# Altium schematic symbol library Speaker Library.SchLib: 91 symbols
Pins are listed as number, name and electrical type; pins without a type are passive.

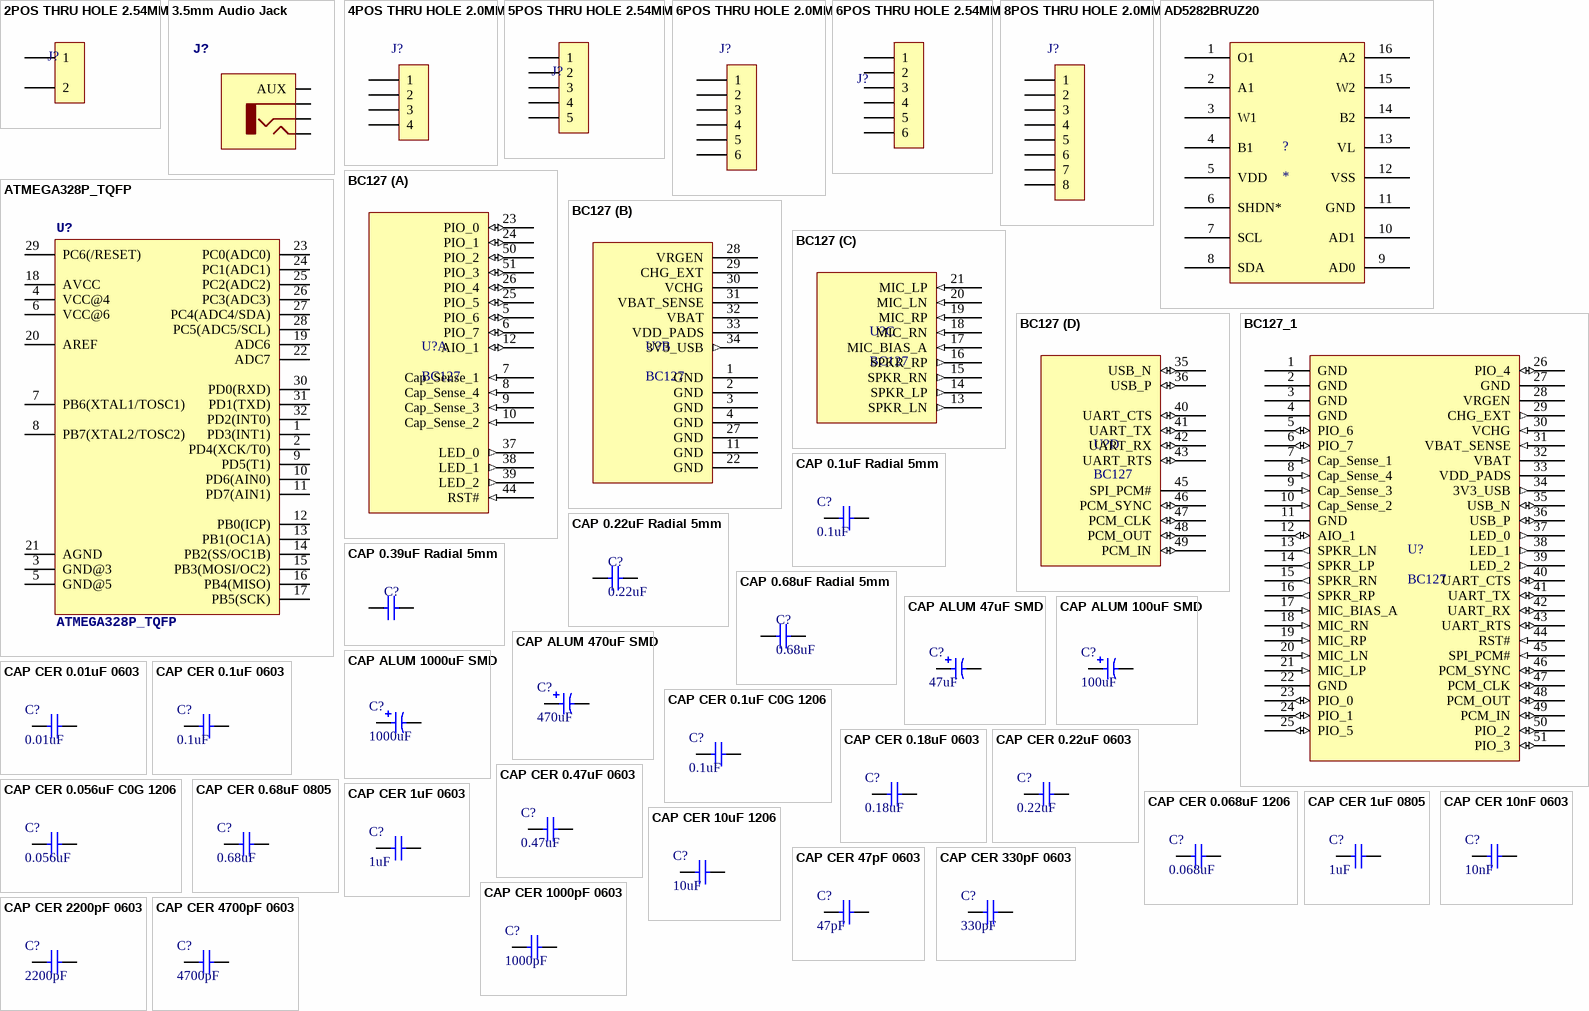
[diagram p0: symbols 2POS THRU HOLE 2.54MM to CAP CER 4700pF 0603]

## 2POS THRU HOLE 2.54MM
designator J?
footprint 070543-0001 (Connector, Through-hole, 2.54mm Pitch)
pins: 1, 2

## 3.5mm Audio Jack
designator J?
footprint JST PH-4
pins: 1 AUX, 2 SLEEVE, 3 RIGHT, 4 LEFT

## 4POS THRU HOLE 2.0MM
designator J?  (value not drawn)
Digikey Part Number: 455-1706-ND
footprint JST PH-4
pins: 1, 2, 3, 4

## 5POS THRU HOLE 2.54MM
designator J?  (value not drawn)
footprint 70543-0004 (Connector, Through-hole, 2.54mm Pitch)
pins: 1, 2, 3, 4, 5

## 6POS THRU HOLE 2.0MM
designator J?  (value not drawn)
Digikey Part Number: 455-1708-ND
footprint JST PH-6
pins: 1, 2, 3, 4, 5, 6

## 6POS THRU HOLE 2.54MM
designator J?  (value not drawn)
footprint 90147-1106 (Receptacle, 6POS, Through-hole, 2.54mm Pitch)
pins: 1, 2, 3, 4, 5, 6

## 8POS THRU HOLE 2.0MM
designator J?  (value not drawn)
Digikey Part Number: 455-1710-ND
footprint JST PH-8
pins: 1, 2, 3, 4, 5, 6, 7, 8

## AD5282BRUZ20
designator ?
Imported; Manufacturer_Part_Number: AD5282BRUZ20; Vendor: Analog Devices Inc; Taps: 256; Resistance (Ohms): 20K; Number of Circuits: 2; Temperature Coefficient: 30 ppm/Â°C Typical; Memory Type: Volatile; Interface: IÂ²C (Device Address); Voltage - Supply: 4.5 V ~ 16.5 V, Â±4.5 V ~ 5.5 V; C: Copyright (C) 2015 Accelerated Designs. All rights reserved; DigiKeyPartNumber: AD5282BRUZ20-ND; Quantity_Available: 1600; DataSheet: http://www.analog.com/static/imported-files/data_sheets/AD5280_5282.pdf; Operating Temperature: -40Â°C ~ 85Â°C; Mounting Type: Surface Mount; Package / Case: 16-TSSOP (0.173", 4.40mm Width); Supplier Device Package: 16-TSSOP; Packaging: Tube; Copyright: Copyright (C) 2015 Accelerated Designs. All rights reserved; RefDes: RefDes; Type: Type; Value: Value
footprint TSSOP-16
pins: 1 O1, 2 A1, 3 W1, 4 B1, 5 VDD (power), 6 SHDN*, 7 SCL, 8 SDA, 9 AD0, 10 AD1, 11 GND, 12 VSS (power), 13 VL (power), 14 B2, 15 W2, 16 A2

## ATMEGA328P_TQFP
designator U?
PROD_ID: IC-09069; Digikey Part Number: ATMEGA328P-AURCT-ND
footprint TQFP32-08
pins: 1 PD3(INT1), 2 PD4(XCK/T0), 3 GND@3 (power), 4 VCC@4 (power), 5 GND@5 (power), 6 VCC@6 (power), 7 PB6(XTAL1/TOSC1), 8 PB7(XTAL2/TOSC2), 9 PD5(T1), 10 PD6(AIN0), 11 PD7(AIN1), 12 PB0(ICP), 13 PB1(OC1A), 14 PB2(SS/OC1B), 15 PB3(MOSI/OC2), 16 PB4(MISO), 17 PB5(SCK), 18 AVCC, 19 ADC6, 20 AREF, 21 AGND (power), 22 ADC7, 23 PC0(ADC0), 24 PC1(ADC1), 25 PC2(ADC2), 26 PC3(ADC3), 27 PC4(ADC4/SDA), 28 PC5(ADC5/SCL), 29 PC6(/RESET), 30 PD0(RXD), 31 PD1(TXD), 32 PD2(INT0)

## BC127
designator U?
footprint BC127
part A pins: 5 PIO_6 (io) "PIO", 6 PIO_7 (io) "PIO", 7 Cap_Sense_1 (in), 8 Cap_Sense_4 (in), 9 Cap_Sense_3 (in), 10 Cap_Sense_2 (in), 12 AIO_1 (io) "Analog I/O", 23 PIO_0 (io), 24 PIO_1 (io), 25 PIO_5 (io), 26 PIO_4 (io), 37 LED_0 (out) "LED Driver", 38 LED_1 (out) "LED Driver", 39 LED_2 (out) "LED Driver", 44 RST# (in) "Reset (if low for more than 5ms)", 50 PIO_2 (io), 51 PIO_3 (io)
part B pins: 1 GND (power) "Common Ground", 2 GND (power) "Common Ground", 3 GND (power) "Common Ground", 4 GND (power) "Common Ground", 11 GND (power) "Common Ground", 22 GND (power) "Common Ground", 27 GND (power) "Common Ground", 28 VRGEN, 29 CHG_EXT "Charger Control", 30 VCHG "Charger Input", 31 VBAT_SENSE "Battery Charger Sense", 32 VBAT "Battery Positive", 33 VDD_PADS (power) "Positive Supply Input", 34 3V3_USB (out) "Positive Supply Output"
part C pins: 13 SPKR_LN (out) "Speaker Left Negative", 14 SPKR_LP (out) "Speaker Left Positive", 15 SPKR_RN (out) "Speaker Right Negative", 16 SPKR_RP (out) "Speaker Right Positive", 17 MIC_BIAS_A (in), 18 MIC_RN (in), 19 MIC_RP (in), 20 MIC_LN (in), 21 MIC_LP (in)
part D pins: 35 USB_N (io) "USB Data Negative", 36 USB_P (io) "USB Data Positive", 40 UART_CTS (io) "UART Clear to Send", 41 UART_TX (io) "UART TX Data", 42 UART_RX (io) "UART RX Data", 43 UART_RTS (io) "UART Request to Send, Active Low", 45 SPI_PCM# "PCB/SPI Select", 46 PCM_SYNC (io), 47 PCM_CLK (io), 48 PCM_OUT (io), 49 PCM_IN (io)

## BC127_1
designator U?, comment BC127
footprint BC127
pins: 1 GND (power) "Common Ground", 2 GND (power) "Common Ground", 3 GND (power) "Common Ground", 4 GND (power) "Common Ground", 5 PIO_6 (io) "PIO", 6 PIO_7 (io) "PIO", 7 Cap_Sense_1 (in), 8 Cap_Sense_4 (in), 9 Cap_Sense_3 (in), 10 Cap_Sense_2 (in), 11 GND (power) "Common Ground", 12 AIO_1 (io) "Analog I/O", 13 SPKR_LN (out) "Speaker Left Negative", 14 SPKR_LP (out) "Speaker Left Positive", 15 SPKR_RN (out) "Speaker Right Negative", 16 SPKR_RP (out) "Speaker Right Positive", 17 MIC_BIAS_A (in), 18 MIC_RN (in), 19 MIC_RP (in), 20 MIC_LN (in), 21 MIC_LP (in), 22 GND (power) "Common Ground", 23 PIO_0 (io), 24 PIO_1 (io), 25 PIO_5 (io), 26 PIO_4 (io), 27 GND (power) "Common Ground", 28 VRGEN, 29 CHG_EXT (out) "Charger Control", 30 VCHG (in) "Charger Input", 31 VBAT_SENSE (in) "Battery Charger Sense", 32 VBAT "Battery Positive", 33 VDD_PADS (power) "Positive Supply Input", 34 3V3_USB (out) "Positive Supply Output", 35 USB_N (io) "USB Data Negative", 36 USB_P (io) "USB Data Positive", 37 LED_0 (out) "LED Driver", 38 LED_1 (out) "LED Driver", 39 LED_2 (out) "LED Driver", 40 UART_CTS (io) "UART Clear to Send", 41 UART_TX (io) "UART TX Data", 42 UART_RX (io) "UART RX Data", 43 UART_RTS (io) "UART Request to Send, Active Low", 44 RST# (in) "Reset (if low for more than 5ms)", 45 SPI_PCM# (in) "PCB/SPI Select", 46 PCM_SYNC (io), 47 PCM_CLK (io), 48 PCM_OUT (io), 49 PCM_IN (io), 50 PIO_2 (io), 51 PIO_3 (io)

## CAP 0.1uF Radial 5mm
designator C?, comment 0.1uF
Film cap in LT; Value: 0.1uF; Digikey Part Number: 495-5055-1-ND
footprint CAP Radial 5mm
pins: 1, 2

## CAP 0.22uF Radial 5mm
designator C?, comment 0.22uF
Film cap in crossover; Manufacturer: EPCOS (TDK); Voltage: 100V; Value: 0.22uF; Digikey Part Number: 495-4985-1-ND
footprint CAP Radial 5mm
pins: 1, 2

## CAP 0.39uF Radial 5mm
designator C?, comment 0.39uF  (value not drawn)
Film cap in LT; Manufacturer: EPCOS (TDK); Manufacturer P/N: B32529C105J; Voltage: 63V; Value: 0.39uF; Digikey Part Number: 495-4846-1-ND
footprint CAP Radial 5mm
pins: 1, 2

## CAP 0.68uF Radial 5mm
designator C?, comment 0.68uF
Output Cap; Manufacturer: EPCOS (TDK); Voltage: 63V; Value: 0.68uF; Digikey Part Number: 495-1114-ND
footprint CAP Radial 5mm
pins: 1, 2

## CAP ALUM 47uF SMD
designator C?, comment 47uF
Manufacturer: Panasonic; Voltage: 35V; Digikey Part Number: PCE3842CT-ND; Value: 47uF
footprint CAP_EEFK_D
pins: 1, 2

## CAP ALUM 100uF SMD
designator C?, comment 100uF
Manufacturer: Nichicon; Voltage: 50V; Digikey Part Number: 493-2226-1-ND; Value: 100uF
footprint PCAP_8x10-ELEC00
pins: 1, 2

## CAP ALUM 470uF SMD
designator C?, comment 470uF
Digikey Part Number: 493-2181-1-ND; Value: 470uF
footprint NICHICON 8x10 CAP
pins: 1, 2

## CAP ALUM 1000uF SMD
designator C?, comment 1000uF
Input Bulk Cap; Manufacturer: Nichicon; Voltage: 25V; Tolerance: 20%; Digikey Part Number: 493-1305-ND; Value: 1000uF
footprint Nichicon UVZ 5mm
pins: 1, 2

## CAP CER 0.01uF 0603
designator C?, comment 0.01uF
Manufacturer: Murata; Rating: C0G; Value: 0.01uF; Digikey Part Number: 490-9666-1-ND
footprint CAPC1608X09N (Chip Capacitor, 2-Leads, Body 1.60x0.80mm, IPC Medium Density)
pins: 1, 2

## CAP CER 0.1uF 0603
designator C?, comment 0.1uF
Voltage: 50V; Rating: X7R; Tolerance: 10%; Value: 0.1uF; Digikey Part Number: 490-1519-1-ND; Package: 0603
footprint CAPC1608X09N (Chip Capacitor, 2-Leads, Body 1.60x0.80mm, IPC Medium Density)
pins: 1, 2

## CAP CER 0.1uF C0G 1206
designator C?, comment 0.1uF
Voltage: 25V; Rating: C0G; Tolerance: 5%; Value: 0.1uF; Digikey Part Number: 490-1767-1-ND; Package: 1206
footprint CAPC3216X18N (Chip Capacitor, 2-Leads, Body 3.20x1.60mm, IPC Medium Density)
pins: 1, 2

## CAP CER 0.18uF 0603
designator C?, comment 0.18uF
Manufacturer: Murata; Voltage: 25V; Rating: X7R; Value: 0.18uF; Digikey Part Number: 490-6431-1-ND; Package: 0603
footprint CAPC1608X09N (Chip Capacitor, 2-Leads, Body 1.60x0.80mm, IPC Medium Density)
pins: 1, 2

## CAP CER 0.22uF 0603
designator C?, comment 0.22uF
Manufacturer: Murata; Voltage: 50V; Rating: X7R; Value: 0.22uF; Digikey Part Number: 1276-1111-1-ND
footprint CAPC1608X09N (Chip Capacitor, 2-Leads, Body 1.60x0.80mm, IPC Medium Density)
pins: 1, 2

## CAP CER 0.47uF 0603
designator C?, comment 0.47uF
Voltage: 25V; Rating: X7R; Value: 0.47uF; Digikey Part Number: 490-3291-1-ND
footprint CAPC1608X09N (Chip Capacitor, 2-Leads, Body 1.60x0.80mm, IPC Medium Density)
pins: 1, 2

## CAP CER 0.056uF C0G 1206
designator C?, comment 0.056uF
Voltage: 50V; Rating: C0G; Tolerance: 5%; Value: 0.056uF; Digikey Part Number: 490-8347-1-ND; Package: 1206
footprint CAPC3216X18N (Chip Capacitor, 2-Leads, Body 3.20x1.60mm, IPC Medium Density)
pins: 1, 2

## CAP CER 0.68uF 0805
designator C?, comment 0.68uF
High Reliability, Low Voltage Shift; Manufacturer: TDK; Manufacturer Part Number: CGJ4J2X7R1E684K125AA; Voltage: 25V; Rating: X7R; Value: 0.68uF; Digikey Part Number: 445-8178-1-ND
footprint CAPC2012X09N (Chip Capacitor, 2-Leads, Body 2.00x1.25mm, IPC Medium Density)
pins: 1, 2

## CAP CER 0.068uF 1206
designator C?, comment 0.068uF
Voltage: 100V; Rating: C0G; Tolerance: 5%; Value: 0.068uF; Digikey Part Number: 445-172693-1-ND; Package: 1206
footprint CAPC3216X18N (Chip Capacitor, 2-Leads, Body 3.20x1.60mm, IPC Medium Density)
pins: 1, 2

## CAP CER 1uF 0603
designator C?, comment 1uF
Manufacturer: Murata; Manufacturer Part Number: GRM188R7YA105KA12D; Voltage: 35V; Rating: X7R; Tolerance: 10%; Value: 1uF; Digikey Part Number: 490-10487-1-ND
footprint CAPC1608X09N (Chip Capacitor, 2-Leads, Body 1.60x0.80mm, IPC Medium Density)
pins: 1, 2

## CAP CER 1uF 0805
designator C?, comment 1uF
Ceramic suitable for audio AC coupling; Manufacturer: Murata; Manufacturer Part Number: GRM21BR71E105KA99; Voltage: 25V; Tolerance: 10%; Rating: X7R; Value: 1uF; Digikey Part Number: 490-6484-1-ND
footprint CAPC2012X09N (Chip Capacitor, 2-Leads, Body 2.00x1.25mm, IPC Medium Density)
pins: 1, 2

## CAP CER 10nF 0603
designator C?, comment 10nF
Bypass caps; Manufacturer: Murata; Digikey Part Number: 490-9666-1-ND; Value: 10nF
footprint CAPC1608X09N (Chip Capacitor, 2-Leads, Body 1.60x0.80mm, IPC Medium Density)
pins: 1, 2

## CAP CER 10uF 1206
designator C?, comment 10uF
3V3 filter cap; Voltage: 25V; Rating: X7R; Digikey Part Number: 490-6518-1-ND; Value: 10uF
footprint CAPC3216X18N (Chip Capacitor, 2-Leads, Body 3.20x1.60mm, IPC Medium Density)
pins: 1, 2

## CAP CER 47pF 0603
designator C?, comment 47pF
Rating: C0G; Voltage: 50V; Value: 47pF; Digikey Part Number: 490-1419-1-ND
footprint CAPC1608X09N (Chip Capacitor, 2-Leads, Body 1.60x0.80mm, IPC Medium Density)
pins: 1, 2

## CAP CER 330pF 0603
designator C?, comment 330pF
Manufacturer: Murata; Rating: C0G; Voltage: 50V; Value: 330pF; Digikey Part Number: 490-1439-1-ND
footprint CAPC1608X09N (Chip Capacitor, 2-Leads, Body 1.60x0.80mm, IPC Medium Density)
pins: 1, 2

## CAP CER 1000pF 0603
designator C?, comment 1000pF
Manufacturer: Murata; Rating: C0G; Voltage: 50V; Value: 1000pF; Digikey Part Number: 490-1451-1-ND
footprint CAPC1608X09N (Chip Capacitor, 2-Leads, Body 1.60x0.80mm, IPC Medium Density)
pins: 1, 2

## CAP CER 2200pF 0603
designator C?, comment 2200pF
Manufacturer: Murata; Voltage: 50V; Tolerance: 1%; Rating: C0G; Value: 2200pF; Digikey Part Number: 490-7768-1-ND
footprint CAPC1608X09N (Chip Capacitor, 2-Leads, Body 1.60x0.80mm, IPC Medium Density)
pins: 1, 2

## CAP CER 4700pF 0603
designator C?, comment 4700pF
Manufacturer: TDK; Voltage: 100V; Tolerance: 5%; Rating: C0G; Value: 4700pF; Digikey Part Number: 445-172684-1-ND
footprint CAPC1608X09N (Chip Capacitor, 2-Leads, Body 1.60x0.80mm, IPC Medium Density)
pins: 1, 2

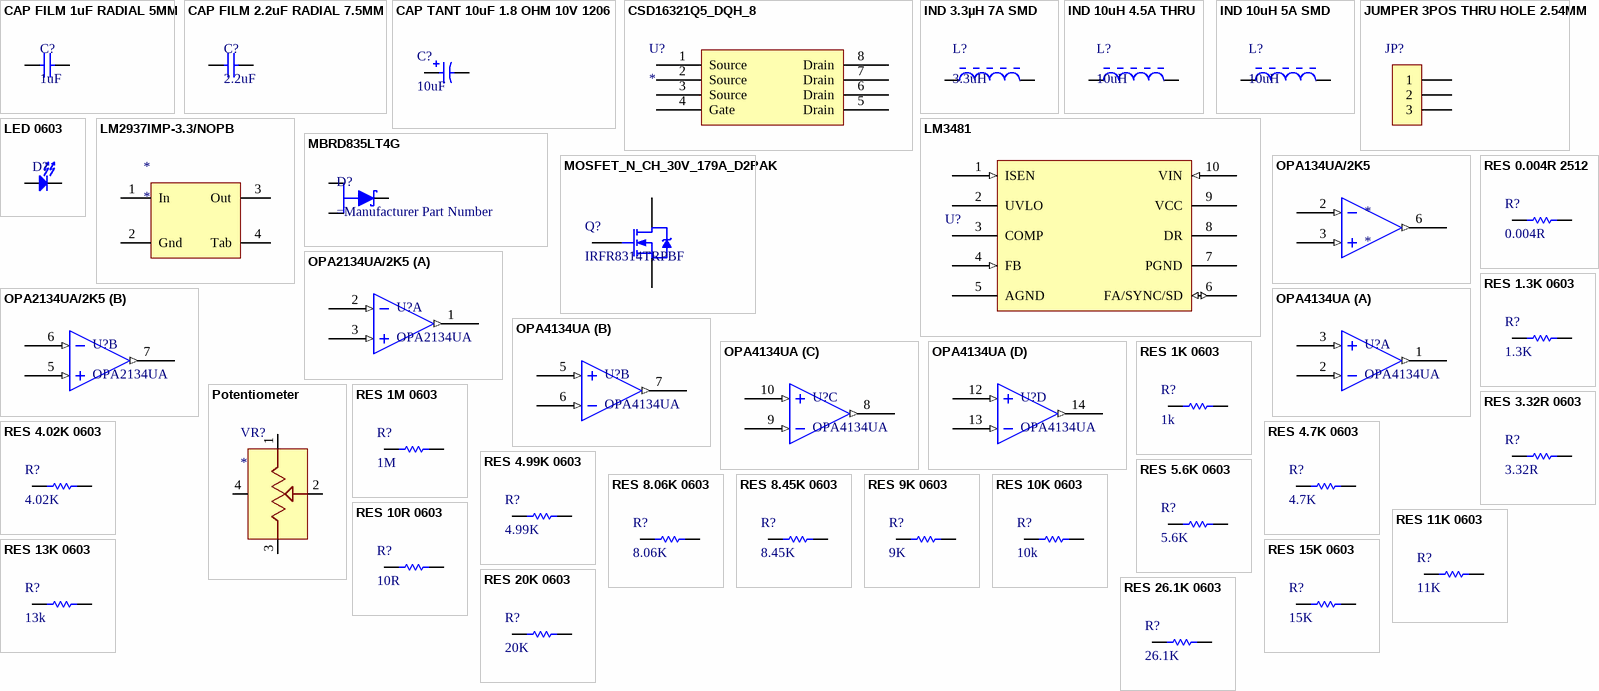
[diagram p1: symbols CAP FILM 1uF RADIAL 5MM to RES 26.1K 0603]

## CAP FILM 1uF RADIAL 5MM
designator C?, comment 1uF
Audio coupling cap; Manufacturer: EPCOS (TDK); Manufacturer P/N: B32529C105J; Voltage: 63V; Value: 1uF; Digikey Part Number: 495-1119-ND
footprint CAP Radial 5mm
pins: 1, 2

## CAP FILM 2.2uF RADIAL 7.5MM
designator C?, comment 2.2uF
Audio coupling cap; Manufacturer: EPCOS (TDK); Manufacturer P/N: B32520C225K; Voltage: 40V; Value: 2.2uF; Digikey Part Number: 495-4814-ND
footprint CAP Radial 7.5MM
pins: 1, 2

## CAP TANT 10uF 1.8 OHM 10V 1206
designator C?, comment 10uF
Voltage: 10V; Tolerance: 10%; ESR: 1.8 Ohm; Digikey Part Number: 399-8431-1-ND; Value: 10uF
footprint CAPMP3216X18N (Molded Capacitor, 2-Leads, Body 3.20x1.60mm, IPC Medium Density)
pins: 1, 2

## CSD16321Q5_DQH_8
designator U?
Manufacturer: Texas Instruments; GENERIC_PART_NUMBER: CSD16321Q5; INDUSTRY_STD_PKG_TYPE: SON; FAMILY_NAME: N-Channel MOSFET Transistors; PIN_COUNT: 8; PACKAGE_DESIGNATOR: DQH; Datasheet URL: http://www.ti.com/lit/gpn/CSD16321Q5; RefDes: RefDes; Type: DEV; Value: Value; Digikey Part Number: 296-25643-1-ND
footprint DQH8
pins: 1 Source, 2 Source, 3 Source, 4 Gate, 5 Drain, 6 Drain, 7 Drain, 8 Drain

## IND 3.3µH 7A SMD
designator L?, comment 3.3uH
Digikey Part Number: SRP7030-3R3FMCT-ND; Value: 3.3uH
footprint IND_BOURNS_SRP00 - duplicate
pins: 1, 2

## IND 10uH 4.5A THRU
designator L?, comment 10uH
Manufacturer: Ice Components; Manufacturer P/N: 1D10A-100M; DCR: 20.5mOhm; Value: 10uH; Mouser P/N: 911-1D10A-100M
footprint ICE 1D10A (Through Hole Class D Inductor)
pins: 1, 2

## IND 10uH 5A SMD
designator L?, comment 10uH
Digikey Part Number: SRN1060-100MCT-ND; Value: 10uH
footprint IND_BOURNS_SRN10
pins: 1, 2

## JUMPER 3POS THRU HOLE 2.54MM
designator JP?
footprint 3 Position 2.54MM Thru-Hole (Jumper, Through-hole, 2.54mm Pitch)
pins: 1, 2, 3

## LED 0603
designator D?
Voltage: 2.2V; Configuration: Single; Current: 20mA; Footprint: 0603; Temperature: 85dC; Digikey Part Number: 160-1447-1-ND
footprint DIOM1608X08N (Molded Diode, 2-Leads, Body 1.60x0.80mm, IPC Medium Density)
pins: 1 K2, 2 A2

## LM2937IMP-3.3/NOPB
designator *
Digikey Part Number: LM2937IMP-3.3/NOPBCT-ND
footprint SOT230P700X180-4N (DCY) (SOT223, 4-Leads, Body 6.50x7.00mm (avg), Pitch 2.30mm, IPC Medium Density)
pins: 1 In (power), 2 Gnd (power), 3 Out (power), 4 Tab (power)

## LM3481
designator U?  (value not drawn)
IC REG CTRLR MULT TOP 10MSOP; Digikey Part Number: LM3481MM/NOPBCT-ND
footprint VSSOP10 (DGS (S-PDS0-G10)
pins: 1 ISEN (in), 2 UVLO, 3 COMP, 4 FB (in), 5 AGND (power), 6 FA/SYNC/SD (io), 7 PGND (power), 8 DR, 9 VCC (power), 10 VIN (in)

## MBRD835LT4G
designator D?
SHOTTKEY 35V 8A; Type: SCHOT; Configuration: Single; Footprint: TO-252-3; Voltage: 35V; Current: 8A; Digikey Part Number: MBRD835LT4GOSCT-ND
footprint ONSEMI DPAK-3
pins: 1, 3, 4

## MOSFET_N_CH_30V_179A_D2PAK
designator Q?, comment IRFR8314TRPBF
Reverse Voltage Power MOSFET; Manufacturer: Infineon Technologies; VDS: 30V; Rds On (Max): 2.2 mOhm @ 90A, 10V; Digikey Part Number: IRFR8314TRPBFCT-ND; Value: IRFR8314TRPBF
footprint DPAK229P991X239-3N (D-PAK, 3-Pads, Body 6.21x6.73mm (max), IPC Medium Density)
pins: 1 G, 3 S, 4 D

## OPA134UA/2K5
designator *
Digikey Part Number: 296-26241-1-ND
footprint SOIC127P600X175-8N (SOIC, 8-Leads, Body 4.90x3.90mm, Pitch 1.27mm, IPC Medium Density)
pins: 2 -In A (in), 3 +In A (in), 4 V- (power) hidden to GND, 6 Out (out), 7 V+ (power) hidden to VBAT

## OPA2134UA/2K5
designator U?, comment OPA2134UA
Digikey Part Number: 296-22024-1-ND; Value: OPA2134UA
footprint SOIC127P600X175-8N (SOIC, 8-Leads, Body 4.90x3.90mm, Pitch 1.27mm, IPC Medium Density)
part A pins: 1 Out A (out), 2 -In A (in), 3 +In A (in), 4 V- (power) hidden to GND, 8 V+ (power) hidden to V+
part B pins: 5 +In B (in), 6 -In B (in), 7 Out B (out)

## OPA4134UA
designator U?
Quad OPAx134 Operational Amplifier; Digikey Part Number: 296-26284-1-ND; Value: OPA4134UA
footprint SOIC127P600X175-14N (SOIC, 14-Leads, Body 8.65x3.90mm, Pitch 1.27mm, IPC Medium Density)
part A pins: 1 Out A (out), 2 -In A (in), 3 +In A (in), 4 V+ (power) hidden to V+
part B pins: 5 +In B (in), 6 -In B (in), 7 Out B (out)
part C pins: 8 Out C (out), 9 -In C (in), 10 +In C (in), 11 V- (power) hidden to GND
part D pins: 12 +In D (in), 13 -In D (in), 14 Out D (out)

## Potentiometer
designator VR?
Value: *
footprint JST PH-4
pins: 1 A, 2 W, 3 B, 4

## RES 0.004R 2512
designator R?, comment 0.004R
Manufacturer: Panasonic; Tolerance: 1%; Power: 1W; Type: RES; Footprint: 2512; Digikey Part Number: P4.0MCT-ND; Value: 0.004R
footprint RESC6533X09N (Chip Resistor, 2-Leads, Body 6.45x3.35mm, IPC Medium Density)
pins: 1, 2

## RES 1.3K 0603
designator R?, comment 1.3K
Manufacturer: Vishay Dale; Tolerance: 1%; Power: 0.1W; Type: RES; Footprint: 0603; Digikey Part Number: 541-1.30KHCT-ND; Value: 1.3K
footprint RESC1608X06N (Chip Resistor, 2-Leads, Body 1.55x0.85mm, IPC Medium Density)
pins: 1, 2

## RES 1K 0603
designator R?, comment 1k
Manufacturer: Panasonic; Manufacturer Part Number: ERJ-PA3F1001V; Tolerance: 1%; Power: 0.25W; Type: RES; Footprint: 0603; Temperature: 155dC; Digikey Part Number: P1.0KBYCT-ND; Value: 1k
footprint RESC1608X06N (Chip Resistor, 2-Leads, Body 1.55x0.85mm, IPC Medium Density)
pins: 1, 2

## RES 1M 0603
designator R?, comment 1M
Tolerance: 1%; Power: 0.1W; Footprint: 0603; Value: 1M; Digikey Part Number: 311-1.00MHRCT-ND
footprint RESC1608X06N (Chip Resistor, 2-Leads, Body 1.55x0.85mm, IPC Medium Density)
pins: 1, 2

## RES 3.32R 0603
designator R?, comment 3.32R
Tolerance: 1%; Power: 0.1W; Type: RES; Footprint: 0603; Digikey Part Number: 311-3.32HRCT-ND; Value: 3.32R
footprint RESC1608X06N (Chip Resistor, 2-Leads, Body 1.55x0.85mm, IPC Medium Density)
pins: 1, 2

## RES 4.02K 0603
designator R?, comment 4.02K
Tolerance: 1%; Type: RES; Footprint: 0603; Value: 4.02K; Digikey Part Number: 311-4.02KHRCT-ND
footprint RESC1608X06N (Chip Resistor, 2-Leads, Body 1.55x0.85mm, IPC Medium Density)
pins: 1, 2

## RES 4.7K 0603
designator R?, comment 4.7K
Tolerance: 1%; Type: RES; Footprint: 0603; Value: 4.7K; Digikey Part Number: 311-4.70KHRCT-ND
footprint RESC1608X06N (Chip Resistor, 2-Leads, Body 1.55x0.85mm, IPC Medium Density)
pins: 1, 2

## RES 4.99K 0603
designator R?, comment 4.99K
Tolerance: 1%; Type: RES; Footprint: 0603; Value: 4.99K; Digikey Part Number: 311-4.99KHRCT-ND
footprint RESC1608X06N (Chip Resistor, 2-Leads, Body 1.55x0.85mm, IPC Medium Density)
pins: 1, 2

## RES 5.6K 0603
designator R?, comment 5.6K
Tolerance: 1%; Type: RES; Footprint: 0603; Value: 5.6K; Digikey Part Number: 311-5.60KHRCT-ND
footprint RESC1608X06N (Chip Resistor, 2-Leads, Body 1.55x0.85mm, IPC Medium Density)
pins: 1, 2

## RES 8.06K 0603
designator R?, comment 8.06K
Manufacturer: Yageo; Tolerance: 1%; Power: 0.1W; Type: RES; Footprint: 0603; Digikey Part Number: 311-8.06KHRCT-ND; Value: 8.06K
footprint RESC1608X06N (Chip Resistor, 2-Leads, Body 1.55x0.85mm, IPC Medium Density)
pins: 1, 2

## RES 8.45K 0603
designator R?, comment 8.45K
Manufacturer: Vishay Dale; Tolerance: 1%; Power: 0.1W; Type: RES; Footprint: 0603; Digikey Part Number: 541-8.45KHCT-ND; Value: 8.45K
footprint RESC1608X06N (Chip Resistor, 2-Leads, Body 1.55x0.85mm, IPC Medium Density)
pins: 1, 2

## RES 9K 0603
designator R?, comment 9K
Tolerance: 1%; Type: RES; Footprint: 0603; Value: 9K; Digikey Part Number: 311-9.09KHRCT-ND
footprint RESC1608X06N (Chip Resistor, 2-Leads, Body 1.55x0.85mm, IPC Medium Density)
pins: 1, 2

## RES 10K 0603
designator R?, comment 10k
Manufacturer: Yageo; Manufacturer Part Number: RC0603FR-0710KL; Tolerance: 1%; Power: 0.1W; Type: RES; Footprint: 0603; Temperature: 155dC; Digikey Part Number: 311-10.0KHRCT-ND; Value: 10k
footprint RESC1608X06N (Chip Resistor, 2-Leads, Body 1.55x0.85mm, IPC Medium Density)
pins: 1, 2

## RES 10R 0603
designator R?, comment 10R
Tolerance: 1%; Power: 0.25W; Type: RES; Footprint: 0603; Digikey Part Number: RHM10.0ADCT-ND; Value: 10R
footprint RESC1608X06N (Chip Resistor, 2-Leads, Body 1.55x0.85mm, IPC Medium Density)
pins: 1, 2

## RES 11K 0603
designator R?, comment 11K
Manufacturer: Yageo; Manufacturer Part Number: RC0603FR-0711KL; Tolerance: 1%; Power: 0.1W; Type: RES; Footprint: 0603; Temperature: 155dC; Digikey Part Number: 311-11.0KHRCT-ND; Value: 11K
footprint RESC1608X06N (Chip Resistor, 2-Leads, Body 1.55x0.85mm, IPC Medium Density)
pins: 1, 2

## RES 13K 0603
designator R?, comment 13k
Tolerance: 1%; Type: RES; Footprint: 0603; Value: 13k; Digikey Part Number: 311-13.0KHRCT-ND
footprint RESC1608X06N (Chip Resistor, 2-Leads, Body 1.55x0.85mm, IPC Medium Density)
pins: 1, 2

## RES 15K 0603
designator R?, comment 15K
Tolerance: 1%; Type: RES; Footprint: 0603; Value: 15K; Digikey Part Number: 311-15.0KHRCT-ND
footprint RESC1608X06N (Chip Resistor, 2-Leads, Body 1.55x0.85mm, IPC Medium Density)
pins: 1, 2

## RES 20K 0603
designator R?, comment 20K
Tolerance: 1%; Power: 0.1W; Footprint: 0603; Value: 20K; Digikey Part Number: 311-20.0KHRCT-ND
footprint RESC1608X06N (Chip Resistor, 2-Leads, Body 1.55x0.85mm, IPC Medium Density)
pins: 1, 2

## RES 26.1K 0603
designator R?, comment 26.1K
Manufacturer: Yageo; Manufacturer Part Number: RC0603FR-0726K1L; Tolerance: 1%; Power: 0.1W; Type: RES; Footprint: 0603; Temperature: 155dC; Digikey Part Number: 311-26.1KHRCT-ND; Value: 26.1K
footprint RESC1608X06N (Chip Resistor, 2-Leads, Body 1.55x0.85mm, IPC Medium Density)
pins: 1, 2

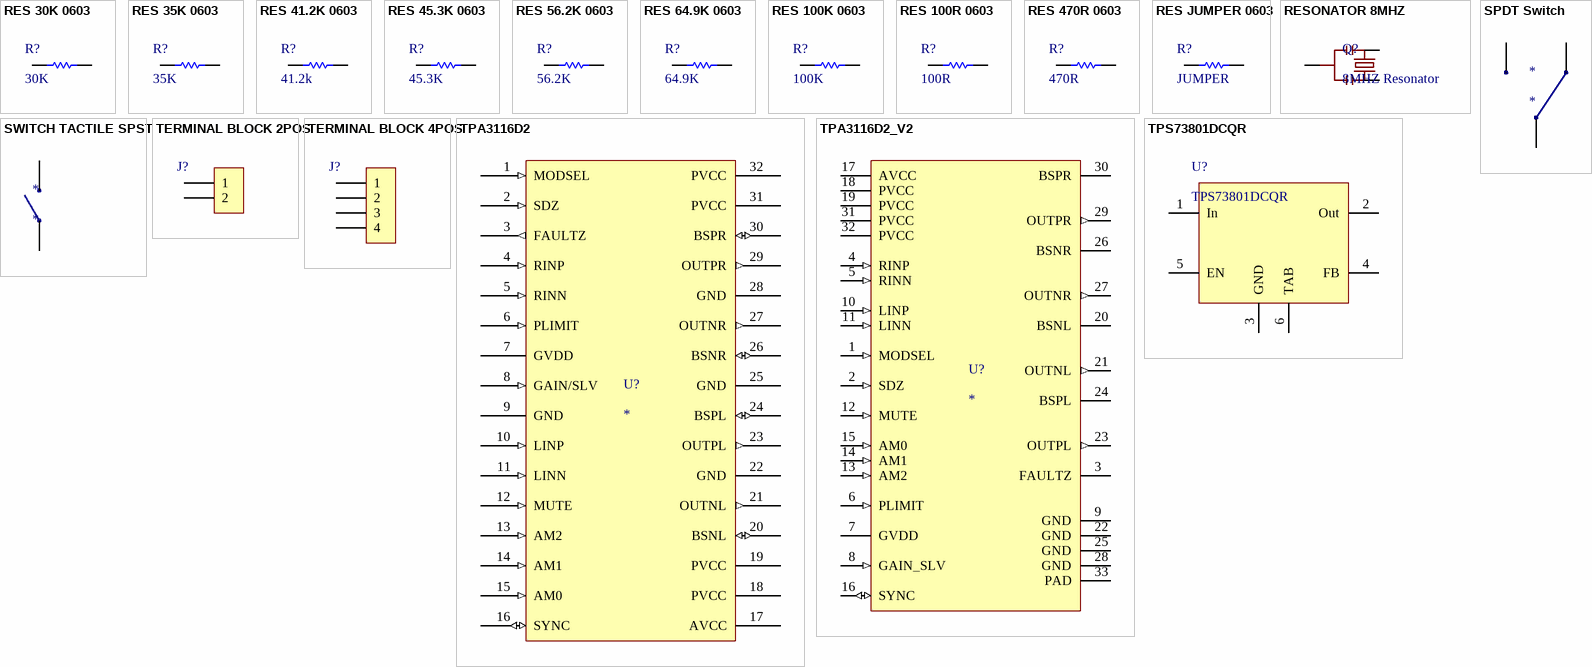
[diagram p2: symbols RES 30K 0603 to TPS73801DCQR]

## RES 30K 0603
designator R?, comment 30K
Tolerance: 1%; Type: RES; Footprint: 0603; Value: 30K; Digikey Part Number: 311-30.0KHRCT-ND
footprint RESC1608X06N (Chip Resistor, 2-Leads, Body 1.55x0.85mm, IPC Medium Density)
pins: 1, 2

## RES 35K 0603
designator R?, comment 35K
Tolerance: 1%; Type: RES; Footprint: 0603; Value: 35K; Digikey Part Number: 311-34.8KHRCT-ND
footprint RESC1608X06N (Chip Resistor, 2-Leads, Body 1.55x0.85mm, IPC Medium Density)
pins: 1, 2

## RES 41.2K 0603
designator R?, comment 41.2k
Manufacturer: Vishay Dale; Tolerance: 1%; Power: 0.1W; Type: RES; Footprint: 0603; Digikey Part Number: 311-41.2KHRCT-ND; Value: 41.2k
footprint RESC1608X06N (Chip Resistor, 2-Leads, Body 1.55x0.85mm, IPC Medium Density)
pins: 1, 2

## RES 45.3K 0603
designator R?, comment 45.3K
Manufacturer: Vishay Dale; Tolerance: 1%; Power: 0.1W; Type: RES; Footprint: 0603; Digikey Part Number: 541-45.3KHCT-ND; Value: 45.3K
footprint RESC1608X06N (Chip Resistor, 2-Leads, Body 1.55x0.85mm, IPC Medium Density)
pins: 1, 2

## RES 56.2K 0603
designator R?, comment 56.2K
Manufacturer: Yageo; Manufacturer Part Number: RC0603FR-0756K2L; Tolerance: 1%; Power: 0.1W; Type: RES; Footprint: 0603; Temperature: 155dC; Digikey Part Number: 311-56.2KHRCT-ND; Value: 56.2K
footprint RESC1608X06N (Chip Resistor, 2-Leads, Body 1.55x0.85mm, IPC Medium Density)
pins: 1, 2

## RES 64.9K 0603
designator R?, comment 64.9K
Manufacturer: Vishay Dale; Tolerance: 1%; Power: 0.1W; Type: RES; Footprint: 0603; Digikey Part Number: 541-64.9KHCT-ND; Value: 64.9K
footprint RESC1608X06N (Chip Resistor, 2-Leads, Body 1.55x0.85mm, IPC Medium Density)
pins: 1, 2

## RES 100K 0603
designator R?, comment 100K
Tolerance: 1%; Power: 0.1W; Footprint: 0603; Value: 100K; Digikey Part Number: 311-100KHRCT-ND
footprint RESC1608X06N (Chip Resistor, 2-Leads, Body 1.55x0.85mm, IPC Medium Density)
pins: 1, 2

## RES 100R 0603
designator R?, comment 100R
Tolerance: 1%; Power: 0.25W; Type: RES; Footprint: 0603; Digikey Part Number: 541-100SACT-ND; Value: 100R
footprint RESC1608X06N (Chip Resistor, 2-Leads, Body 1.55x0.85mm, IPC Medium Density)
pins: 1, 2

## RES 470R 0603
designator R?, comment 470R
Tolerance: 1%; Power: 0.25W; Type: RES; Footprint: 0603; Value: 470R; Digikey Part Number: 311-470HRCT-ND
footprint RESC1608X06N (Chip Resistor, 2-Leads, Body 1.55x0.85mm, IPC Medium Density)
pins: 1, 2

## RES JUMPER 0603
designator R?, comment JUMPER
Tolerance: 1%; Power: 0.25W; Type: RES; Footprint: 0603; Temperature: 155dC; Value: JUMPER; Digikey Part Number: 311-0.0GRCT-ND
footprint RESC1608X06N (Chip Resistor, 2-Leads, Body 1.55x0.85mm, IPC Medium Density)
pins: 1, 2

## RESONATOR 8MHZ
designator Q?, comment 8MHZ Resonator
Digikey Part Number: 490-5995-1-ND
footprint MURATA CSTCE8M00G52Z-R0
pins: 1, 2 GND, 3

## SPDT Switch
designator *
footprint JST PH-4
pins: 1 hidden, 2, 3, 4

## SWITCH TACTILE SPST
designator *
footprint 070543-0001 (Connector, Through-hole, 2.54mm Pitch)
pins: 1, 2

## TERMINAL BLOCK 2POS
designator J?  (value not drawn)
Digikey Part Number: ED2561-ND
footprint TERMINAL BLOCK 5MM 2POS
pins: 1, 2

## TERMINAL BLOCK 4POS
designator J?  (value not drawn)
Digikey Part Number: ED2563-ND
footprint TERMINAL BLOCK 5MM 4POS
pins: 1, 2, 3, 4

## TPA3116D2
designator U?
Digikey Part Number: 296-39337-1-ND
footprint DAP0032A
pins: 1 MODSEL (in) "Mode Select - Pull Low", 2 SDZ (in) "Shutdown Logic", 3 FAULTZ (out) "Active Low Fault Detect", 4 RINP (in), 5 RINN (in), 6 PLIMIT (in) "Power Limit", 7 GVDD (power) "Internal generated gate voltage - do not use!", 8 GAIN/SLV (in) "Gain select", 9 GND (power), 10 LINP (in), 11 LINN (in), 12 MUTE (in), 13 AM2 (in), 14 AM1 (in), 15 AM0 (in), 16 SYNC (io), 17 AVCC (power) "Analog power", 18 PVCC (power) "Power Supply", 19 PVCC (power) "Power Supply", 20 BSNL (io), 21 OUTNL (out), 22 GND (power), 23 OUTPL (out), 24 BSPL (io), 25 GND (power), 26 BSNR (io), 27 OUTNR (out), 28 GND (power), 29 OUTPR (out), 30 BSPR (io), 31 PVCC (power), 32 PVCC (power), 33 POWERPAD (power) hidden to GND "Power Pad"

## TPA3116D2_V2
designator U?
Digikey Part Number: 296-39337-1-ND
footprint DAP0032A
pins: 1 MODSEL (in), 2 SDZ (in), 3 FAULTZ (oc), 4 RINP (in), 5 RINN (in), 6 PLIMIT (in), 7 GVDD (power), 8 GAIN_SLV (in), 9 GND (power), 10 LINP (in), 11 LINN (in), 12 MUTE (in), 13 AM2 (in), 14 AM1 (in), 15 AM0 (in), 16 SYNC (io), 17 AVCC (power), 18 PVCC (power), 19 PVCC (power), 20 BSNL, 21 OUTNL (out), 22 GND (power), 23 OUTPL (out), 24 BSPL, 25 GND (power), 26 BSNR, 27 OUTNR (out), 28 GND (power), 29 OUTPR (out), 30 BSPR, 31 PVCC (power), 32 PVCC (power), 33 PAD (power)

## TPS73801DCQR
designator U?
Adjustable 1.21V-20V 1A Regulator; Digikey Part Number: 296-39489-1-ND; Value: TPS73801DCQR
footprint SOT127P705X180-6M (DCQ) (SOT223, 6-Leads, Body 6.50x7.05mm (avg), Pitch 1.27mm, IPC Low Density)
pins: 1 In (power), 2 Out (power), 3 GND (power), 4 FB (power), 5 EN, 6 TAB (power)